# Altium schematic symbol library 2894.SchLib: 1 symbol
Pins are listed as number, name and electrical type; pins without a type are passive.

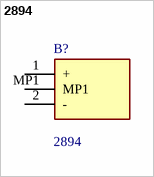
[diagram p0: symbol 2894]

## 2894
designator B?
Coin Cell Battery Holders CR1220 COIN CELL SMT RETAINER; Manufacturer_Name: Keystone Electronics; Geometry.Height: 2.42mm; Mouser Part Number: 534-2894; Mouser Price/Stock: https://www.mouser.co.uk/ProductDetail/Keystone-Electronics/2894?qs=u16ybLDytRb94n%2F3dXyVLQ%3D%3D; Manufacturer_Part_Number: 2894; Datasheet Link: https://www.keyelco.com/product-pdf.cfm?p=14467
footprint 2894
pins: 1 +, 2 -, MP1